# Altium footprint library CAP_EEVFK1H102M.PcbLib: 1 footprints
Each footprint in its own frame and in the unit in brackets; x right, y up, seen from the top. Pads: shape width x height; smd on the part's side, far side on the other; paste and mask are expansions set on the pad; w line width, h text height; cw(c..) or ccw(c..) is an arc to the next point about the centre after c.
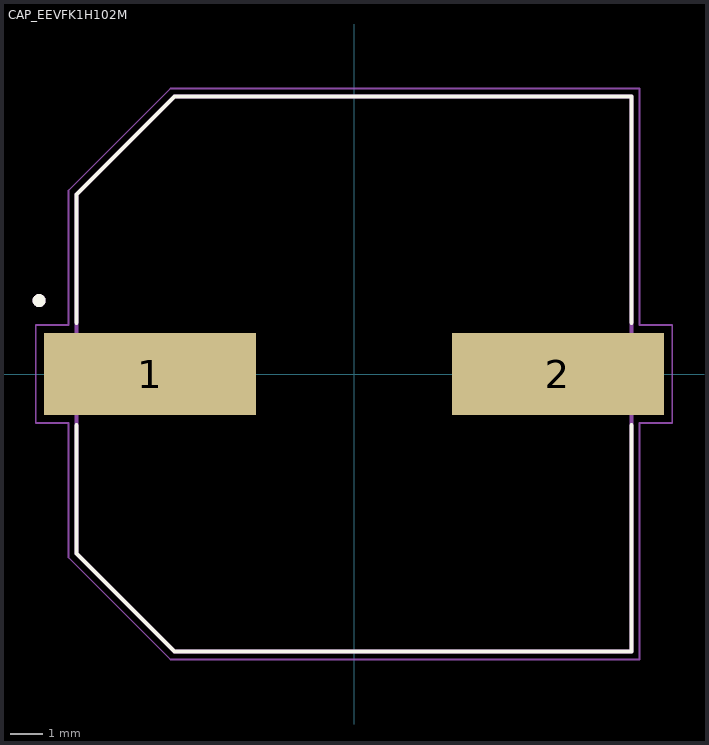
[diagram p0: the footprint, top view; thin cyan lines are the x and y axes]

## CAP_EEVFK1H102M [mm]
pads (2):
  rect 6.5x2.5 smd: 1(-6.25,0) 2(6.25,0)
Top Overlay:
  circle w0.2: c-9.65,2.25 r0.1
  lines w0.127: -8.5,-1.57 -8.5,-5.5 -5.5,-8.5 8.5,-8.5 8.5,-1.57 ; -8.5,1.57 -8.5,5.5 -5.5,8.5 8.5,8.5 8.5,1.57
Mechanical 13:
  circle w0.2: c-9.65,2.25 r0.1
  lines w0.127: -8.5,-5.5 -5.5,-8.5 8.5,-8.5 8.5,8.5 -5.5,8.5 -8.5,5.5 -8.5,-5.5
Mechanical 15:
  lines w0.05: -9.75,-1.5 -9.75,1.5 -8.75,1.5 -8.75,5.625 -5.625,8.75 8.75,8.75 8.75,1.5 9.75,1.5 9.75,-1.5 8.75,-1.5 8.75,-8.75 -5.625,-8.75 -8.75,-5.625 -8.75,-1.5 -9.75,-1.5
3D body "step_temp.STEP": height 16.5, standoff 0, extent -9.2,-8.5 9.2,8.5